# Altium schematic symbol library AM1P-05xx.Schlib: 1 symbol
Pins are listed as number, name and electrical type; pins without a type are passive.

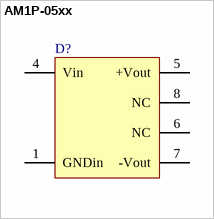
[diagram p0: symbol AM1P-05xx]

## AM1P-05xx
designator D?
DC-DC converter; Package Information: Latest Revision: ver11.0, Feb-2003; Configures: APEX II, APEX 20K, Mercury, ACEX 1K & FLEX Devices; Code - JEDEC: MS-026-ABA; Published: 17-Sep-2003; Datasheet: Latest Revision: ver1.1, Oct-2003; Package Reference: TQFP32; Publisher: Altium Limited
footprint DIP-8 DC-DC
pins: 1 GNDin (power), 4 Vin (power), 5 +Vout (power), 6 NC, 7 -Vout (power), 8 NC